# EAGLE library part NRF24L01 (library ForceTronics)
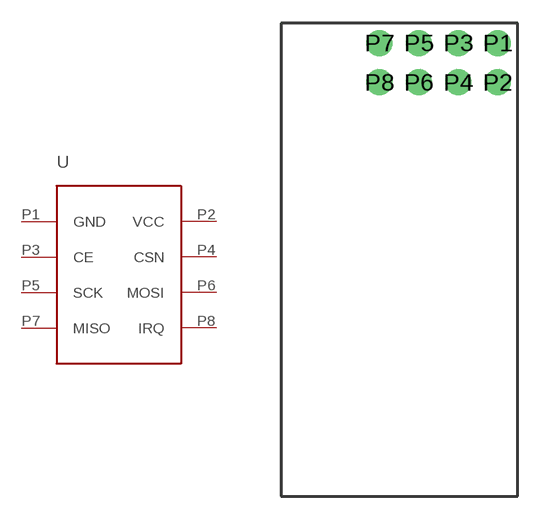
[diagram p0: symbol with the pads of NRF24L01; footprint NRF24L01]

Designator prefix -

## NRF24L01A  [NRF24L01]
P1  GND  in
P2  VCC  pwr
P3  CE
P4  CSN
P5  SCK
P6  MOSI
P7  MISO
P8  IRQ

## Footprint NRF24L01 (pad centres in mm)
nRF24L01+ Transceiver Module
drill 0.8 pad 1.676: P1 13.97,-1.27; P2 13.97,-3.81; P3 11.43,-1.27; P4 11.43,-3.81; P5 8.89,-1.27; P6 8.89,-3.81; P7 6.35,-1.27; P8 6.35,-3.81